# EAGLE library part SD1602VBWB (library SUNLIKE_LCD_SD1602)
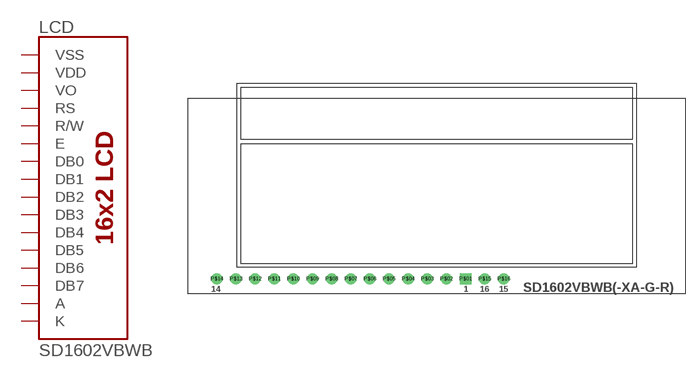
[diagram p0: symbol with the pads of SD1602VBWB; footprint SD1602VBWB]

Designator prefix LCD

## SD1602VBWB  [SD1602VBWB]
P$01  VSS  pwr
P$02  VDD  pwr
P$03  VO
P$04  RS  in
P$05  R/W  in
P$06  E  in
P$07  DB0
P$08  DB1
P$09  DB2
P$10  DB3
P$11  DB4
P$12  DB5
P$13  DB6
P$14  DB7
P$15  A  pwr
P$16  K  pwr

## Footprint SD1602VBWB (pad centres in mm)
drill 1 square: P$01 36.83,2
drill 1 round: P$02 34.29,2; P$03 31.75,2; P$04 29.21,2; P$05 26.67,2; P$06 24.13,2; P$07 21.59,2; P$08 19.05,2; P$09 16.51,2; P$10 13.97,2; P$11 11.43,2; P$12 8.89,2; P$13 6.35,2; P$14 3.81,2; P$15 39.37,2; P$16 41.91,2